# Altium footprint library TO126.PcbLib: 1 footprints
Each footprint in its own frame and in the unit in brackets; x right, y up, seen from the top. Pads: shape width x height; smd on the part's side, far side on the other; paste and mask are expansions set on the pad; w line width, h text height; cw(c..) or ccw(c..) is an arc to the next point about the centre after c.
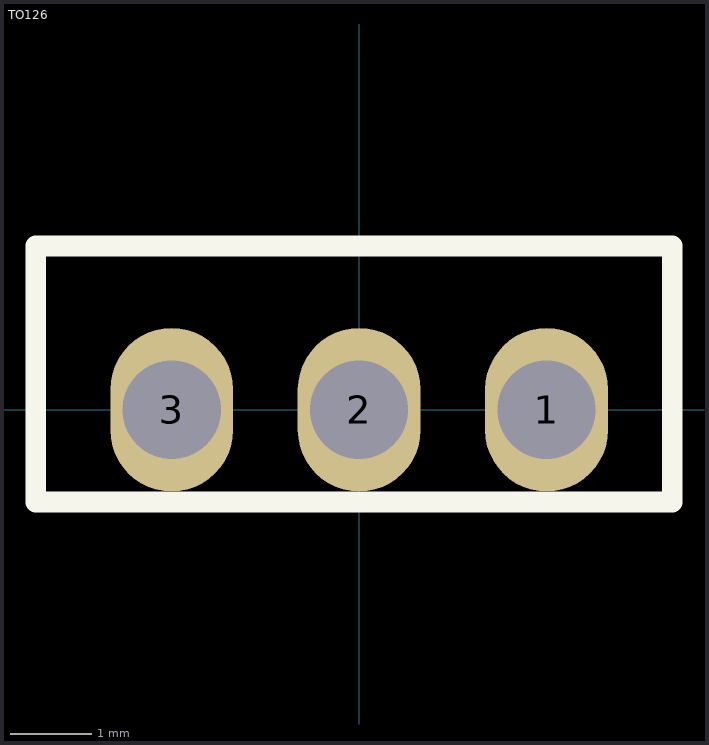
[diagram p0: the footprint, top view; thin cyan lines are the x and y axes]

## TO126 [mm]
height 19.55
pads (3):
  oval 1.5x2 hole 1.2: 1(2.29,0) 2(0,0) 3(-2.29,0)
Top Overlay:
  lines w0.254: -3.95,-1.125 -3.95,2 3.825,2 3.825,-1.125 -3.95,-1.125
3D body: height 15.6, standoff -2.35, extent -3.825,-0.825 3.975,1.875